# Altium schematic symbol library LSM330DLCTR.Schlib: 1 symbol
Pins are listed as number, name and electrical type; pins without a type are passive.

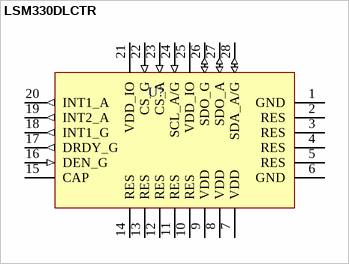
[diagram p0: symbol LSM330DLCTR]

## LSM330DLCTR
designator U?
pins: 1 GND (power), 2 RES (power), 3 RES (power), 4 RES (power), 5 RES (power), 6 GND (power), 7 VDD (power), 8 VDD (power), 9 VDD (power), 10 RES (power), 11 RES (power), 12 RES (power), 13 RES (power), 14 RES (power), 15 CAP (hiz), 16 DEN_G (in), 17 DRDY_G (out), 18 INT1_G (out), 19 INT2_A (out), 20 INT1_A (out), 21 VDD_IO (power), 22 CS_G (in), 23 CS_A (in), 24 SCL_A/G (in), 25 VDD_IO (power), 26 SDO_G (io), 27 SDO_A (io), 28 SDA_A/G (io)
1 alternate drawing of the same symbol